# Altium footprint library CWF-10.PcbLib: 1 footprints
Each footprint in its own frame and in the unit in brackets; x right, y up, seen from the top. Pads: shape width x height; smd on the part's side, far side on the other; paste and mask are expansions set on the pad; w line width, h text height; cw(c..) or ccw(c..) is an arc to the next point about the centre after c.
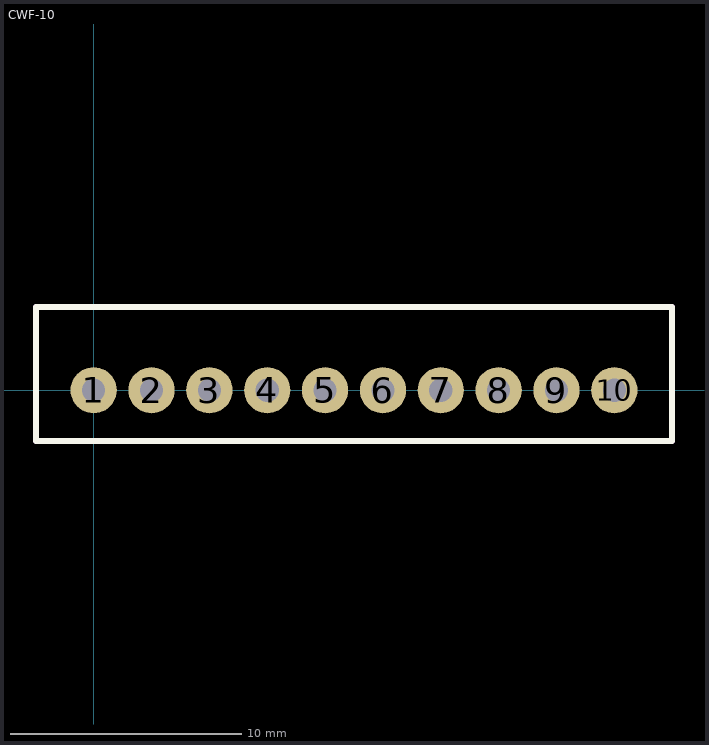
[diagram p0: the footprint, top view; thin cyan lines are the x and y axes]

## CWF-10 [mm]
pads (10):
  round 2 hole 1: 1(0,0) 2(2.5,0) 3(5,0) 4(7.5,0) 5(10,0) 6(12.5,0) 7(15,0) 8(17.5,0) 9(20,0) 10(22.5,0)
Top Overlay:
  lines w0.254: -2.5,-2.2 -2.5,3.6 25,3.6 25,-2.2 -2.5,-2.2
TopAssy:
  lines w0.254: -2.5,-2.2 -2.5,3.5 -2.5,3.6 25,3.6 25,-2.2 -2.5,-2.2
3D body "User Library-CWF-10.step": height 7, standoff -3.5, extent -2.5,-2.2 25,3.55